# EAGLE library part USB-MICRO (library Fuzzy)
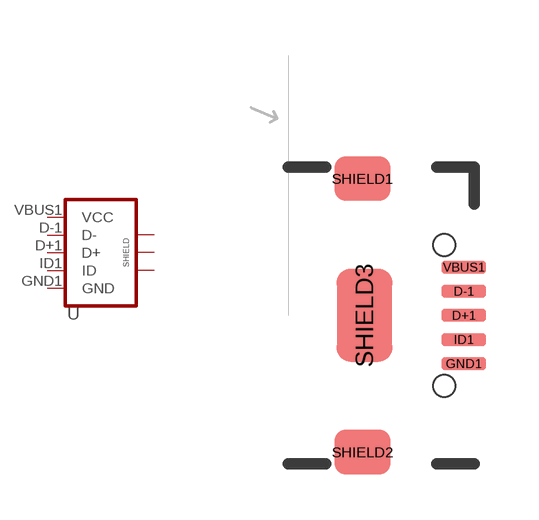
[diagram p3: symbol with the pads of USB-MICRO; footprint USB-MICRO]

Designator prefix -

## USB-MICRO  [USB-MICRO]
D+1  D+
D-1  D-
GND1  GND
ID1  ID
SHIELD1  SHIELD
SHIELD2  SHIELD1
SHIELD3  SHIELD2
VBUS1  VCC

## Footprint USB-MICRO (pad centres in mm)
smd 1.2 x 0.35: D+1 2.725,0; D-1 2.725,0.65; GND1 2.725,-1.3; ID1 2.725,-0.65; VBUS1 2.725,1.3
smd 1.5 x 1.2: SHIELD1 0,3.685; SHIELD2 0,-3.685
smd 1.5 x 2.5: SHIELD3 0.05,0
hole 0.6 at 2.2,1.9
hole 0.6 at 2.2,-1.9